# EAGLE library part LT1763 (library PowerProducts)
LT-Spice library generated with : ltspice.ulp from: E:/Programme/LTC/LTspiceIV/lib/sym/PowerProducts/LT3024*.asy at 05.10.2012 11:02:30
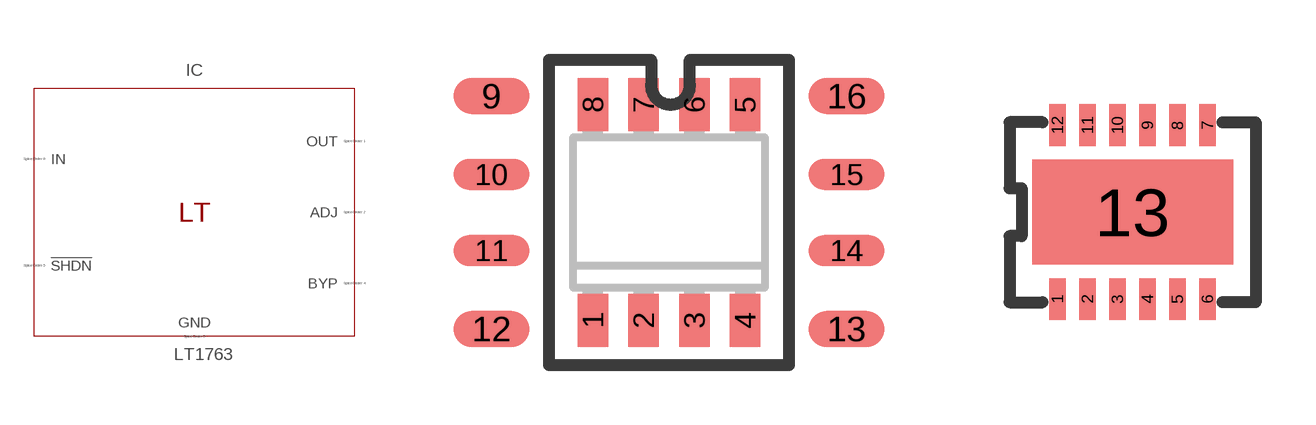
[diagram p22: symbol with the pads of SO8(S8); footprints SO8(S8), DFN12(DE)]

Designator prefix IC

## LT1763S8 (SPICEMODEL: LT1762.lib; SPICEPREFIX: X; VALUE2: LT1762)  [SO8(S8)]
1  OUT  pas
2  ADJ  pas
3  GND  pas
4  BYP  pas
5  !SHDN  pas
6  GND  pas
7  GND  pas
8  IN  pas

## LT1763 (SPICEMODEL: LT1762.lib; SPICEPREFIX: X; VALUE2: LT1762)  [DFN12(DE)]
2  OUT  pas
3  OUT  pas
5  ADJ  pas
6  BYP  pas
7  GND  pas
8  !SHDN  pas
10  IN  pas
11  IN  pas
13  GND  pas

## Footprint SO8(S8) (pad centres in mm)
Package generated from: SO8(S8).asc (!PADS-POWERPCB-V5.0-BASIC! DESIGN DATABASE ASCII FILE 1.0) with :import-pads-powerpcb-v5.ulp Version 1.0.1 at 04.10.2012 14:11:34
smd 0.762 x 1.321: 1 -1.905,-2.701; 2 -0.635,-2.701; 3 0.635,-2.701; 4 1.905,-2.701; 5 1.905,2.701; 6 0.635,2.701; 7 -0.635,2.701; 8 -1.905,2.701
smd 1.905 x 0.9: 9 -4.445,2.917; 12 -4.445,-2.917; 13 4.445,-2.917; 16 4.445,2.917
smd 1.905 x 0.78: 10 -4.445,0.953; 11 -4.445,-0.953; 14 4.445,-0.953; 15 4.445,0.953

## Footprint DFN12(DE) (pad centres in mm)
Package generated from: DFN12(DE).asc (!PADS-POWERPCB-V5.0-BASIC! DESIGN DATABASE ASCII FILE 1.0) with :import-pads-powerpcb-v5.ulp Version 1.0.1 at 04.10.2012 14:11:16
smd 0.42 x 1.05: 1 -1.875,-2.175; 2 -1.125,-2.175; 3 -0.375,-2.175; 4 0.375,-2.175; 5 1.125,-2.175; 6 1.875,-2.175; 7 1.875,2.175; 8 1.125,2.175; 9 0.375,2.175; 10 -0.375,2.175; 11 -1.125,2.175; 12 -1.875,2.175
smd 5.025 x 2.625: 13 0,0